# EAGLE library part PIC18F25K80 (library microchip_PIC18f25K80)
pic18 pic18f25k80
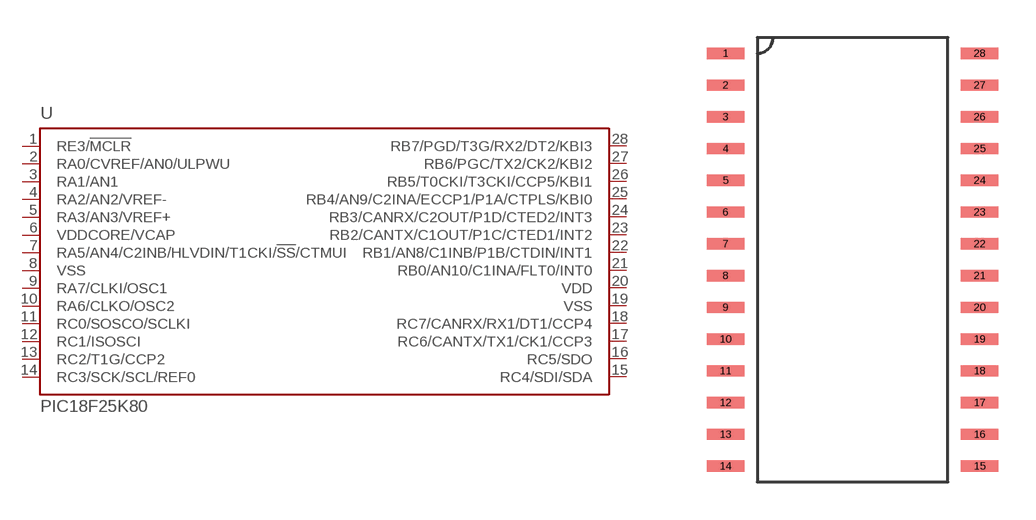
[diagram p0: symbol with the pads of SOIC-28; footprint SOIC-28]

Designator prefix -

## PIC18F25K80  [SOIC-28]
1  RE3/!MCLR  in
2  RA0/CVREF/AN0/ULPWU
3  RA1/AN1
4  RA2/AN2/VREF-
5  RA3/AN3/VREF+
6  VDDCORE/VCAP
7  RA5/AN4/C2INB/HLVDIN/T1CKI/!SS!/CTMUI
8  VSS  pwr
9  RA7/CLKI/OSC1  in
10  RA6/CLKO/OSC2  out
11  RC0/SOSCO/SCLKI
12  RC1/ISOSCI
13  RC2/T1G/CCP2
14  RC3/SCK/SCL/REF0
15  RC4/SDI/SDA
16  RC5/SDO
17  RC6/CANTX/TX1/CK1/CCP3
18  RC7/CANRX/RX1/DT1/CCP4
19  VSS  pwr
20  VDD  pwr
21  RB0/AN10/C1INA/FLT0/INT0
22  RB1/AN8/C1INB/P1B/CTDIN/INT1
23  RB2/CANTX/C1OUT/P1C/CTED1/INT2
24  RB3/CANRX/C2OUT/P1D/CTED2/INT3
25  RB4/AN9/C2INA/ECCP1/P1A/CTPLS/KBI0
26  RB5/T0CKI/T3CKI/CCP5/KBI1
27  RB6/PGC/TX2/CK2/KBI2
28  RB7/PGD/T3G/RX2/DT2/KBI3

## Footprint SOIC-28 (pad centres in mm)
SOIC-28 soic-28 soic28 soic
smd 1.5 x 0.45: 1 -5.23,7.98; 2 -5.23,6.71; 3 -5.23,5.44; 4 -5.23,4.17; 5 -5.23,2.9; 6 -5.23,1.63; 7 -5.23,0.36; 8 -5.23,-0.91; 9 -5.23,-2.18; 10 -5.23,-3.45; 11 -5.23,-4.72; 12 -5.23,-5.99; 13 -5.23,-7.26; 14 -5.23,-8.53; 15 4.93,-8.53; 16 4.93,-7.26; 17 4.93,-5.99; 18 4.93,-4.72; 19 4.93,-3.45; 20 4.93,-2.18; 21 4.93,-0.91; 22 4.93,0.36; 23 4.93,1.63; 24 4.93,2.9; 25 4.93,4.17; 26 4.93,5.44; 27 4.93,6.71; 28 4.93,7.98